# EAGLE library part AFE4490_AFE4490 (library scono)
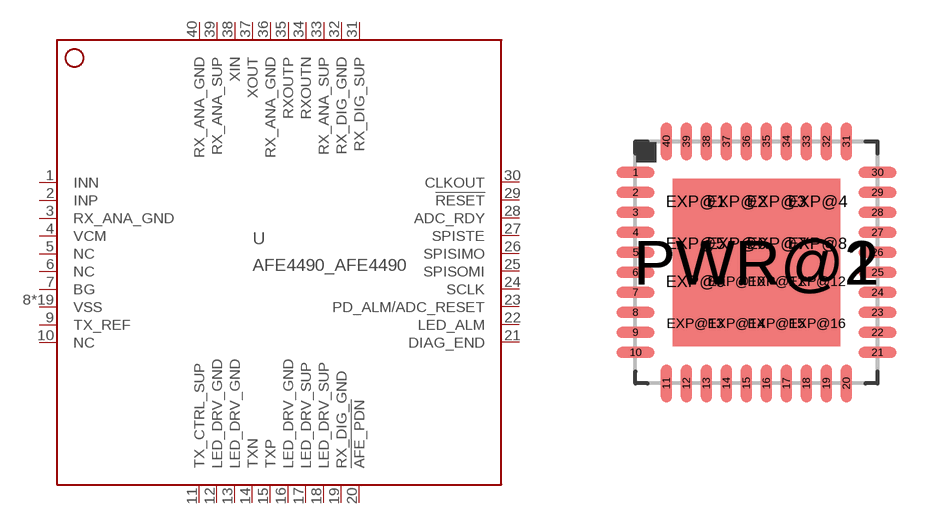
[diagram p60: symbol with the pads of AFE4490_QFN40-6X6; footprint AFE4490_QFN40-6X6]

Designator prefix -

## AFE4490_AFE4490  [AFE4490_QFN40-6X6]
1  INN  in
2  INP  in
3  RX_ANA_GND  sup
4  VCM  out
5  NC  nc
6  NC  nc
7  BG  pas
8  VSS  sup
9  TX_REF  out
10  NC  nc
11  TX_CTRL_SUP  sup
12  LED_DRV_GND  pwr
13  LED_DRV_GND  pwr
14  TXN  out
15  TXP  out
16  LED_DRV_GND  pwr
17  LED_DRV_SUP  pwr
18  LED_DRV_SUP  pwr
19  RX_DIG_GND  sup
20  !AFE_PDN  in
21  DIAG_END  out
22  LED_ALM  out
23  PD_ALM/ADC_RESET
24  SCLK  in
25  SPISOMI  out
26  SPISIMO  in
27  SPISTE  in
28  ADC_RDY  out
29  !RESET  in
30  CLKOUT  out
31  RX_DIG_SUP  sup
32  RX_DIG_GND  sup
33  RX_ANA_SUP  sup
34  RXOUTN  out
35  RXOUTP  out
36  RX_ANA_GND  sup
37  XOUT  out
38  XIN  in
39  RX_ANA_SUP  sup
40  RX_ANA_GND  sup
EXP@1  VSS  sup
EXP@2  VSS  sup
EXP@3  VSS  sup
EXP@4  VSS  sup
EXP@5  VSS  sup
EXP@6  VSS  sup
EXP@7  VSS  sup
EXP@8  VSS  sup
EXP@9  VSS  sup
EXP@10  VSS  sup
EXP@11  VSS  sup
EXP@12  VSS  sup
EXP@13  VSS  sup
EXP@14  VSS  sup
EXP@15  VSS  sup
EXP@16  VSS  sup
PWR@1  VSS  sup
PWR@2  VSS  sup

## Footprint AFE4490_QFN40-6X6 (pad centres in mm)
RHA (S-PQFP-N40) 6 x 6 mm Source: http://focus.ti.com/lit/ds/symlink/tps65020.pdf
smd 0.95 x 0.28: 1 -3.025,2.25; 2 -3.025,1.75; 3 -3.025,1.25; 4 -3.025,0.75; 5 -3.025,0.25; 6 -3.025,-0.25; 7 -3.025,-0.75; 8 -3.025,-1.25; 9 -3.025,-1.75; 10 -3.025,-2.25; 21 3.025,-2.25; 22 3.025,-1.75; 23 3.025,-1.25; 24 3.025,-0.75; 25 3.025,-0.25; 26 3.025,0.25; 27 3.025,0.75; 28 3.025,1.25; 29 3.025,1.75; 30 3.025,2.25
smd 0.28 x 0.95: 11 -2.25,-3.025; 12 -1.75,-3.025; 13 -1.25,-3.025; 14 -0.75,-3.025; 15 -0.25,-3.025; 16 0.25,-3.025; 17 0.75,-3.025; 18 1.25,-3.025; 19 1.75,-3.025; 20 2.25,-3.025; 31 2.25,3.025; 32 1.75,3.025; 33 1.25,3.025; 34 0.75,3.025; 35 0.25,3.025; 36 -0.25,3.025; 37 -0.75,3.025; 38 -1.25,3.025; 39 -1.75,3.025; 40 -2.25,3.025
drill 0.3 pad 1.1 square: EXP@1 -1.525,1.525; EXP@2 -0.5,1.525; EXP@3 0.5,1.525; EXP@4 1.525,1.525; EXP@5 -1.525,0.475; EXP@6 -0.5,0.475; EXP@7 0.5,0.475; EXP@8 1.525,0.475; EXP@9 -1.525,-0.475; EXP@10 -0.5,-0.475; EXP@11 0.5,-0.475; EXP@12 1.525,-0.475; EXP@13 -1.525,-1.525; EXP@14 -0.5,-1.525; EXP@15 0.5,-1.525; EXP@16 1.525,-1.525
smd 4.191 x 4.191 bottom: PWR@1 0,0
smd 4.191 x 4.191: PWR@2 0,0